# Altium footprint library relays_reed.PcbLib: 7 footprints
Each footprint in its own frame and in the unit in brackets; x right, y up, seen from the top. Pads: shape width x height; smd on the part's side, far side on the other; paste and mask are expansions set on the pad; w line width, h text height; cw(c..) or ccw(c..) is an arc to the next point about the centre after c.
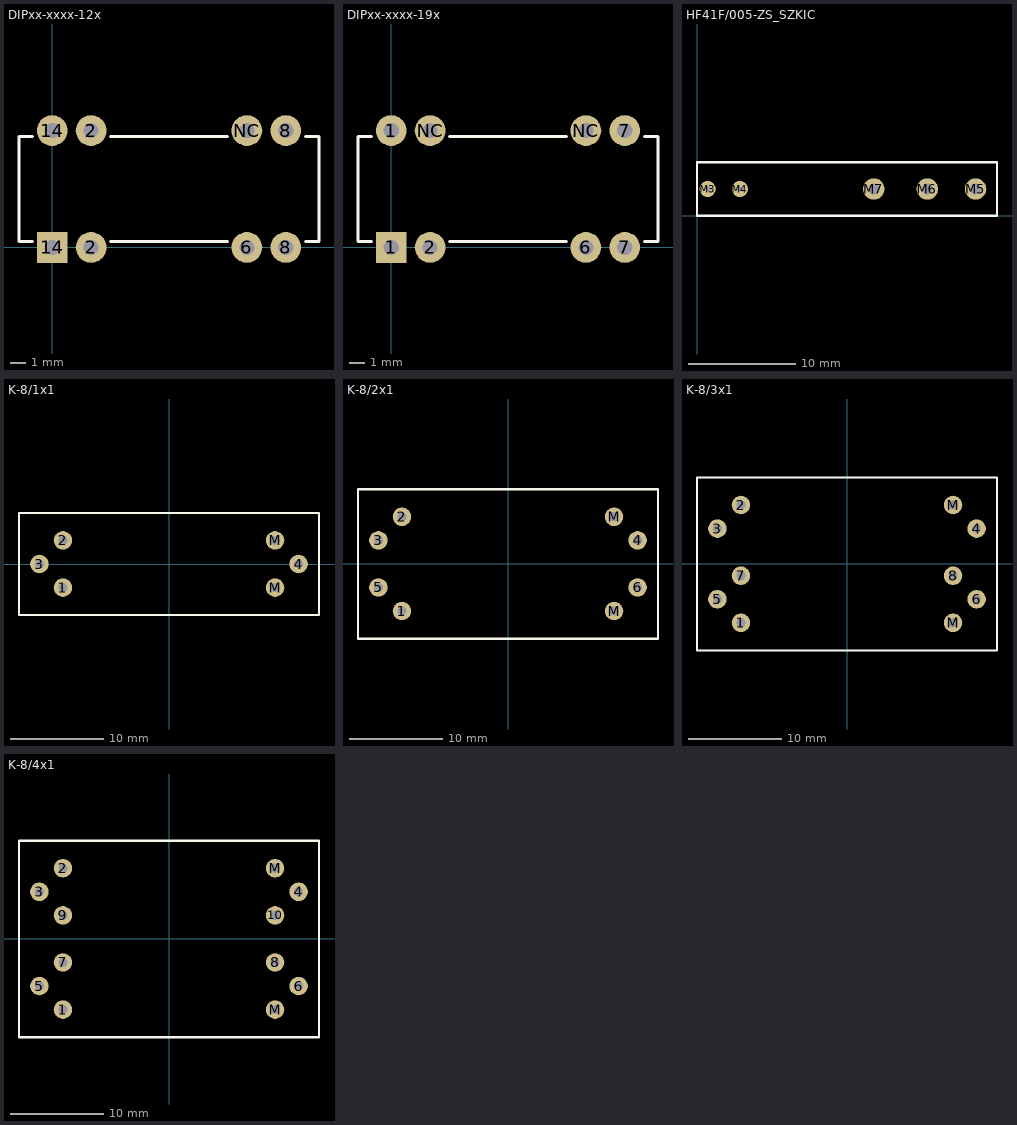
[diagram p0: the footprints below, top view; thin cyan lines are the x and y axes]

## DIPxx-xxxx-12x [mm]
pads (8):
  round 2 hole 1: 2(2.54,0) 2(2.54,7.62) 6(12.7,0) 8(15.24,0) 8(15.24,7.62) 14(0,7.62) NC(12.7,7.62)
  rect 2x2 hole 1: 14(0,0)
Top Overlay:
  lines w0.2: -1.27,0.381 -2.159,0.381 -2.159,7.239 -1.27,7.239 ; 3.81,0.381 11.43,0.381 ; 3.81,7.239 11.43,7.239 ; 16.51,0.381 17.399,0.381 17.399,7.239 16.51,7.239
3D body "MEDER electronic-DIP-1A72-11L_WEB.step": height 5.17, standoff -2.37, extent -2.03,-0.125 17.27,7.745

## DIPxx-xxxx-19x [mm]
pads (8):
  rect 2x2 hole 1: 1(0,0)
  round 2 hole 1: 1(0,7.62) 2(2.54,0) 6(12.7,0) 7(15.24,0) 7(15.24,7.62) NC(2.54,7.62) NC(12.7,7.62)
Top Overlay:
  lines w0.2: -1.27,0.381 -2.159,0.381 -2.159,7.239 -1.27,7.239 ; 3.81,0.381 11.43,0.381 ; 3.81,7.239 11.43,7.239 ; 16.51,0.381 17.399,0.381 17.399,7.239 16.51,7.239
3D body "MEDER electronic-DIP-1A72-11L_WEB.step": height 5.17, standoff -2.37, extent -2.03,-0.125 17.27,7.745

## HF41F/005-ZS_SZKIC [mm]
pads (5):
  round 1.5 hole 0.5: M3(1,2.5) M4(4,2.5)
  round 2 hole 1: M5(26,2.5) M6(21.5,2.5) M7(16.5,2.5)
Top Overlay:
  lines w0.2: 0,0 0,5 28,5 28,0 0,0
3D body: height 15, standoff 0, extent 0,0 28,5

## K-8/1x1 [mm] "Dolam K-8/1x1 Serier Relay Reed"
height 11
pads (6):
  round 2 hole 1: 1(-11.43,-2.54) 2(-11.43,2.54) 3(-13.97,0) 4(13.97,0) M(11.43,-2.54) M(11.43,2.54)
Top Overlay:
  lines w0.254: -16.17,-5.5 16.17,-5.5 16.17,5.5 -16.17,5.5 -16.17,-5.5
3D body: height 11, standoff 0, extent -16.17,-5.564 16.194,5.505

## K-8/2x1 [mm] "Dolam K-8/2x1 Serier Relay Reed"
height 11
pads (8):
  round 2 hole 1: 1(-11.43,-5.08) 2(-11.43,5.08) 3(-13.97,2.54) 4(13.97,2.54) 5(-13.97,-2.54) 6(13.97,-2.54) M(11.43,-5.08) M(11.43,5.08)
Top Overlay:
  lines w0.254: -16.17,-8.06 -16.17,8.04 16.17,8.04 16.17,-8.06 -16.17,-8.06
3D body: height 11, standoff 0, extent -16.234,-8.024 16.294,8.045

## K-8/3x1 [mm] "Dolam K-8/3x1 Serier Relay Reed"
height 11
pads (10):
  round 2 hole 1: 1(-11.43,-6.35) 2(-11.43,6.35) 3(-13.97,3.81) 4(13.97,3.81) 5(-13.97,-3.81) 6(13.97,-3.81) 7(-11.43,-1.27) 8(11.43,-1.27) M(11.43,-6.35) M(11.43,6.35)
Top Overlay:
  lines w0.254: -16.17,-9.33 16.17,-9.33 ; -16.17,-9.29 -16.17,9.31 16.17,9.31 16.17,-9.29
3D body: height 11, standoff 0, extent -16.234,-9.254 16.194,9.315

## K-8/4x1 [mm] "Dolam K-8/4x1 Serier Relay Reed"
height 11
pads (12):
  round 2 hole 1: 1(-11.43,-7.62) 2(-11.43,7.62) 3(-13.97,5.08) 4(13.97,5.08) 5(-13.97,-5.08) 6(13.97,-5.08) 7(-11.43,-2.54) 8(11.43,-2.54) 9(-11.43,2.54) 10(11.43,2.54) M(11.43,-7.62) M(11.43,7.62)
Top Overlay:
  lines w0.254: 16.17,-10.6 -16.17,-10.6 -16.17,10.58 16.17,10.58 16.17,-10.52
3D body: height 11, standoff 0, extent -16.234,-10.584 16.194,10.585